# Altium footprint library TRIMPOT.PcbLib: 1 footprints
Each footprint in its own frame and in the unit in brackets; x right, y up, seen from the top. Pads: shape width x height; smd on the part's side, far side on the other; paste and mask are expansions set on the pad; w line width, h text height; cw(c..) or ccw(c..) is an arc to the next point about the centre after c.
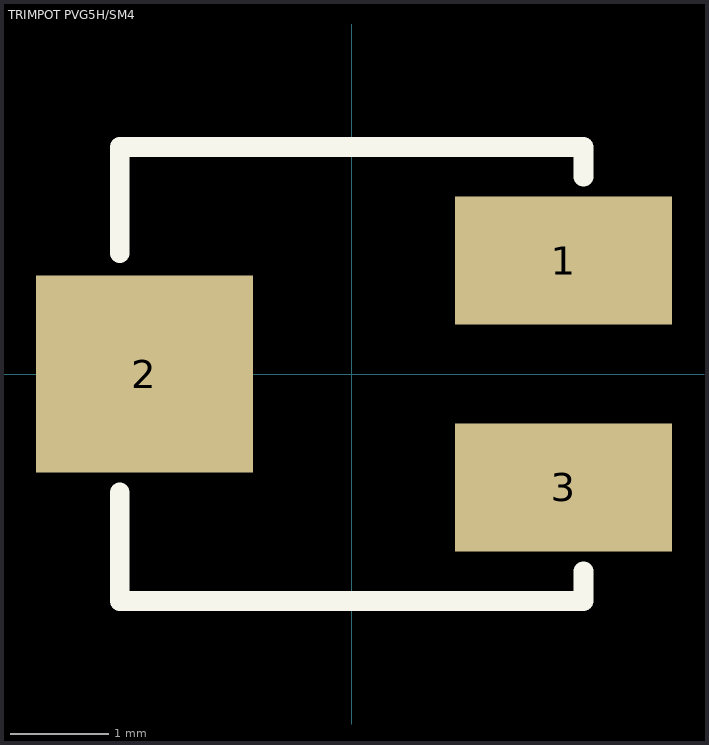
[diagram p0: the footprint, top view; thin cyan lines are the x and y axes]

## TRIMPOT PVG5H/SM4 [mm] "TRIMPOT Murata/Copal SMT PVG5H/SM4 (SM-4XA/B)"
height 4
pads (3):
  rect 2.2x1.3 smd: 1(2.15,1.15)
  rect 2.2x2 smd: 2(-2.1,0)
  rect 2.2x1.3 smd paste+0: 3(2.15,-1.15)
Top Overlay:
  lines w0.2: -2.35,-1.2 -2.35,-2.3 2.35,-2.3 2.35,-2 ; -2.35,1.225 -2.35,2.3 2.35,2.3 2.35,2
3D body: height 3.7, standoff 0.2, extent -2.45,-2.4 2.45,2.4
3D body: height 3.35, standoff 1.85, extent -2.5,-1.947 -2,-0.453
3D body: height 0.8, standoff 0, extent -2.65,-0.625 -1.65,0.675
3D body: height 0.8, standoff 0, extent 1.65,-1.575 2.65,-0.675
3D body: height 0.8, standoff 0, extent 1.65,0.725 2.65,1.625